# Altium footprint library ELEC(4.0X6.0)-SMD.PcbLib: 1 footprints
Each footprint in its own frame and in the unit in brackets; x right, y up, seen from the top. Pads: shape width x height; smd on the part's side, far side on the other; paste and mask are expansions set on the pad; w line width, h text height; cw(c..) or ccw(c..) is an arc to the next point about the centre after c.
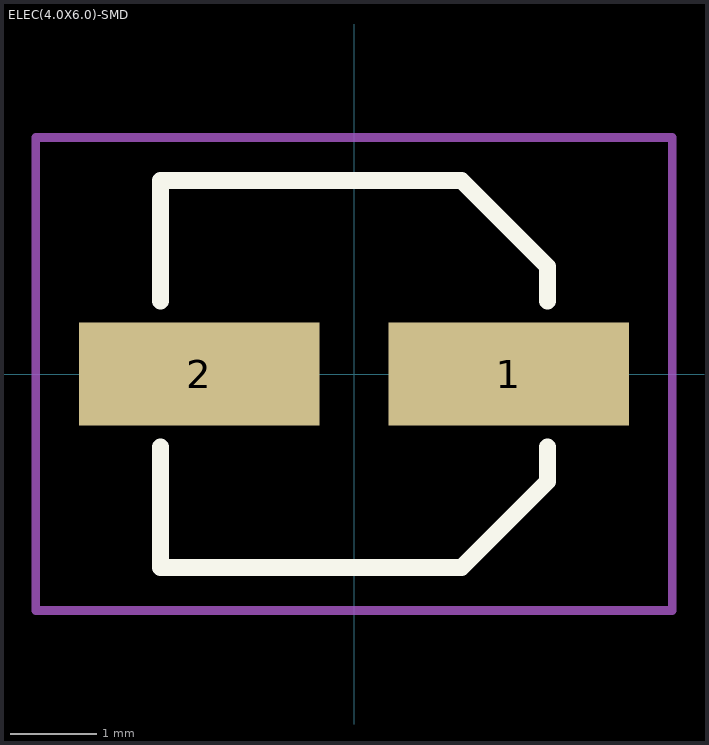
[diagram p0: the footprint, top view; thin cyan lines are the x and y axes]

## ELEC(4.0X6.0)-SMD [mm]
pads (2):
  rect 2.8x1.2 smd: 1(1.8,0) 2(-1.8,0)
Top Overlay:
  lines w0.2: -2.25,-0.85 -2.25,-2.25 1.25,-2.25 2.25,-1.25 2.25,-0.85 ; -2.25,0.85 -2.25,2.25 1.25,2.25 2.25,1.25 2.25,0.85
Top Courtyard:
  lines w0.1: -3.7,-0.6 -3.7,-2.75 ; -2.6,-2.75 -3.7,-2.75 ; 2.6,2.75 3.7,2.75 ; 3.7,0.6 3.7,2.75 ; -3.7,-2.75 -3.7,2.75 3.7,2.75 ; -3.7,-2.75 3.7,-2.75 3.7,2.75
3D body "EDH336M6R3A9BAA.step": height 5.66, standoff 0, extent -2.6,-2.25 2.6,2.25